# Altium integrated library MaleHeaderSMD_50mil.IntLib: 2 symbols
Pins are listed as number, name and electrical type; pins without a type are passive.

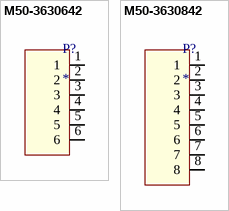
[diagram p0: symbols M50-3630642 to M50-3630842]

## M50-3630642
designator P?
CONN HEADER SMD 6POS 1.27MM / Manufacturer PN: M50-3630642
footprint M50-3630642
pins: 1, 2, 3, 4, 5, 6

## M50-3630842
designator P?
CONN HEADER SMD 8POS 1.27MM / Manufacturer PN: M50-3630842
footprint M50-3630842
pins: 1, 2, 3, 4, 5, 6, 7, 8